# Altium footprint library ECS-80-10-33-CHN-TR3.PcbLib: 1 footprints
Each footprint in its own frame and in the unit in brackets; x right, y up, seen from the top. Pads: shape width x height; smd on the part's side, far side on the other; paste and mask are expansions set on the pad; w line width, h text height; cw(c..) or ccw(c..) is an arc to the next point about the centre after c.
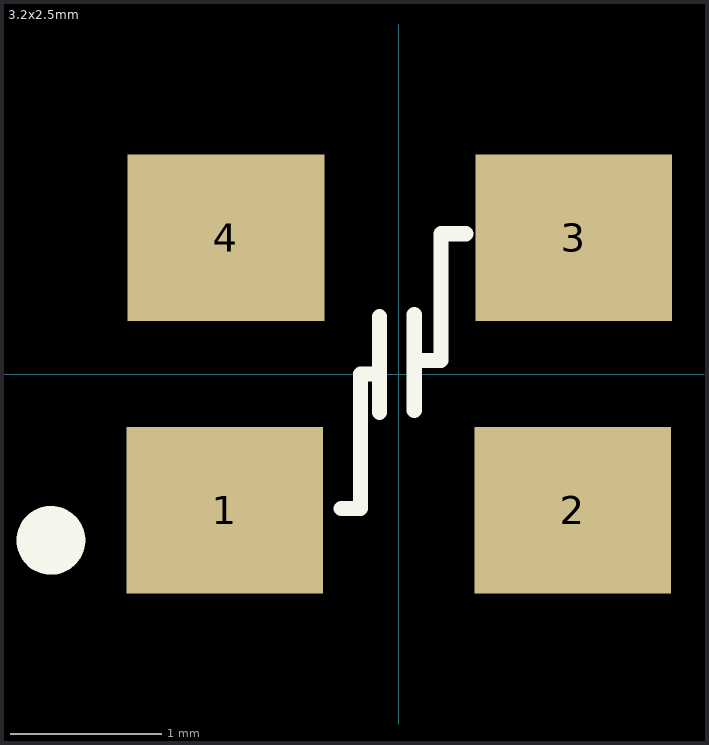
[diagram p0: the footprint, top view; thin cyan lines are the x and y axes]

## 3.2x2.5mm [mm]
pads (4):
  rect 1.3x1.1 smd: 1(-1.15,-0.9) 2(1.15,-0.9) 3(1.157,0.9) 4(-1.143,0.9)
Top Overlay:
  circle w0.254: c-2.3,-1.1 r0.1
  lines w0.1: -0.381,-0.889 -0.254,-0.889 -0.254,0 -0.191,0 ; -0.127,-0.254 -0.127,0.381 ; 0.102,-0.241 0.102,0.394 ; 0.114,0.089 0.279,0.089 0.279,0.927 0.445,0.927
3D body "Cristal Cuarzo - 8mhz ECX-32.STEP": height 0.82, standoff 0, extent -1.6,-1.25 1.6,1.25